# Altium integrated library IC_LOGIC_LIB.IntLib: 3 symbols
Pins are listed as number, name and electrical type; pins without a type are passive.

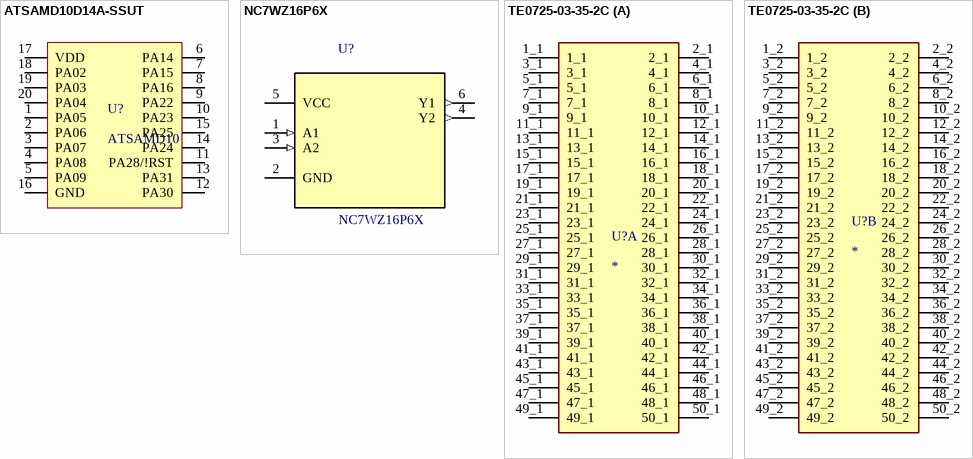
[diagram p0: symbols ATSAMD10D14A-SSUT to TE0725-03-35-2C]

## ATSAMD10D14A-SSUT
designator U?, comment ATSAMD10
ARM® Cortex®-M0+ SAM D10D Microcontroller IC 32-Bit 48MHz 16KB (16K x 8) FLASH 20-SOIC
footprint ATSAMD10D14A-SSUT (ARM® Cortex®-M0+ SAM D10D Microcontroller IC 32-Bit 48MHz 16KB (16K x 8) FLASH 20-SOIC)
pins: 1 PA05, 2 PA06, 3 PA07, 4 PA08, 5 PA09, 6 PA14, 7 PA15, 8 PA16, 9 PA22, 10 PA23, 11 PA28/!RST, 12 PA30, 13 PA31, 14 PA24, 15 PA25, 16 GND, 17 VDD, 18 PA02, 19 PA03, 20 PA04

## NC7WZ16P6X
designator U?
NC7WZ16 Series 5.5 V Surface Mount TinyLogic UHS Dual Buffer - SC-70-6; MF: ON Semiconductor; MP: NC7WZ16P6X; SnapEDA_Link: https://www.snapeda.com/parts/NC7WZ16P6X/ON%20Semiconductor/view-part/?ref=snap; Price: 0.13 USD; Availability: Good; Package: SC-70-6 ON Semiconductor; Value: *
footprint SOT65P210X110-6N
pins: 1 A1 (in), 2 GND, 3 A2 (in), 4 Y2 (out), 5 VCC (power), 6 Y1 (out)

## TE0725-03-35-2C
designator U?
TE0725 Embedded Module Artix-7 A35T 100MHz 32MB; MF: Trenz Electronic GmbH; MP: TE0725-03-35-2C; Package: Trenz Electronic GmbH; Value: *; Availability: Unavailable; SnapEDA_Link: https://www.snapeda.com/parts/TE0725-03-35-2C/Trenz%20Electronic%20GmbH/view-part/4794770/?ref=snap; Price: None
footprint MODULE_TE0725-03-35-2C
part A pins: 1_1, 2_1, 3_1, 4_1, 5_1, 6_1, 7_1, 8_1, 9_1, 10_1, 11_1, 12_1, 13_1, 14_1, 15_1, 16_1, 17_1, 18_1, 19_1, 20_1, 21_1, 22_1, 23_1, 24_1, 25_1, 26_1, 27_1, 28_1, 29_1, 30_1, 31_1, 32_1, 33_1, 34_1, 35_1, 36_1, 37_1, 38_1, 39_1, 40_1, 41_1, 42_1, 43_1, 44_1, 45_1, 46_1, 47_1, 48_1, 49_1, 50_1
part B pins: 1_2, 2_2, 3_2, 4_2, 5_2, 6_2, 7_2, 8_2, 9_2, 10_2, 11_2, 12_2, 13_2, 14_2, 15_2, 16_2, 17_2, 18_2, 19_2, 20_2, 21_2, 22_2, 23_2, 24_2, 25_2, 26_2, 27_2, 28_2, 29_2, 30_2, 31_2, 32_2, 33_2, 34_2, 35_2, 36_2, 37_2, 38_2, 39_2, 40_2, 41_2, 42_2, 43_2, 44_2, 45_2, 46_2, 47_2, 48_2, 49_2, 50_2